# Altium footprint library WFDFN-8.PcbLib: 1 footprints
Each footprint in its own frame and in the unit in brackets; x right, y up, seen from the top. Pads: shape width x height; smd on the part's side, far side on the other; paste and mask are expansions set on the pad; w line width, h text height; cw(c..) or ccw(c..) is an arc to the next point about the centre after c.
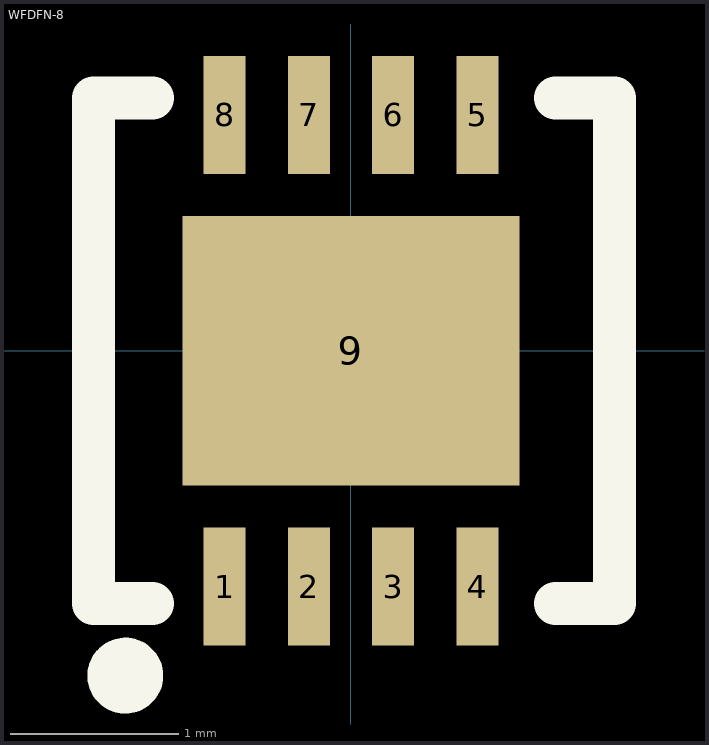
[diagram p0: the footprint, top view; thin cyan lines are the x and y axes]

## WFDFN-8 [mm]
pads (9):
  rect 0.25x0.7 smd: 1(-0.75,-1.4) 2(-0.25,-1.4) 3(0.25,-1.4) 4(0.75,-1.4) 5(0.75,1.4) 6(0.25,1.4) 7(-0.25,1.4) 8(-0.75,1.4)
  rect 2x1.6 smd: 9(0,0)
Top Overlay:
  circle w0.254: c-1.339,-1.929 r0.098
  lines w0.254: -1.178,-1.5 -1.528,-1.5 -1.528,1.5 -1.178,1.5 ; 1.214,-1.5 1.564,-1.5 1.564,1.5 1.214,1.5